# EAGLE library part POWER-MUX (library CAN-D)
Autoswitching Power Mux Source: Datasheet <http://www.ti.com/lit/gpn/tps2115a>
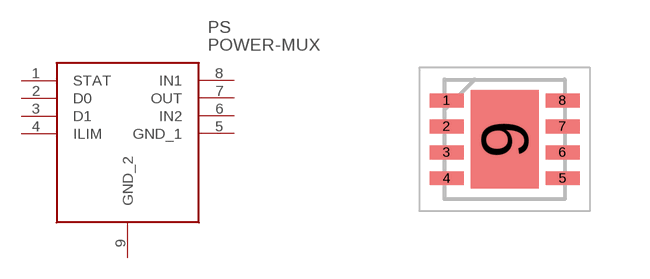
[diagram p4: symbol with the pads of TPS2115ADRBR; footprint TPS2115ADRBR]

Designator prefix PS

## POWER-MUX (DESCRIPTION: Autoswitching Power Mux; HEIGHT: 1mm; MANUFACTURER_NAME: Texas Instruments; MANUFACTURER_PART_NUMBER: TPS2115ADRBR; MOUSER_PART_NUMBER: 595-TPS2115ADRBR; MOUSER_PRICE-STOCK: https://www.mouser.com/Search/Refine.aspx?Keyword=595-TPS2115ADRBR)  [TPS2115ADRBR]
1  STAT
2  D0
3  D1
4  ILIM
5  GND_1
6  IN2
7  OUT
8  IN1
9  GND_2

## Footprint TPS2115ADRBR (pad centres in mm)
DRB0008B
smd 0.85 x 0.35: 1 -1.45,0.975; 2 -1.45,0.325; 3 -1.45,-0.325; 4 -1.45,-0.975; 5 1.45,-0.975; 6 1.45,-0.325; 7 1.45,0.325; 8 1.45,0.975
smd 1.7 x 2.45: 9 0,0